# Altium schematic symbol library BULK.Schlib: 1 symbol
Pins are listed as number, name and electrical type; pins without a type are passive.

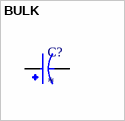
[diagram p0: symbol BULK]

## BULK
designator C?
pins: 1, 2